# Altium schematic symbol library XS_7P.Schlib: 1 symbol
Pins are listed as number, name and electrical type; pins without a type are passive.

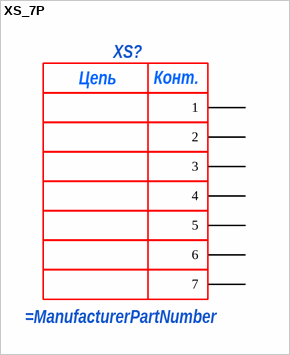
[diagram p0: symbol XS_7P]

## XS_7P
designator XS?
pins: 1, 2, 3, 4, 5, 6, 7
text: Цепь; Конт.